# Altium footprint library 5442248.PcbLib: 1 footprints
Each footprint in its own frame and in the unit in brackets; x right, y up, seen from the top. Pads: shape width x height; smd on the part's side, far side on the other; paste and mask are expansions set on the pad; w line width, h text height; cw(c..) or ccw(c..) is an arc to the next point about the centre after c.
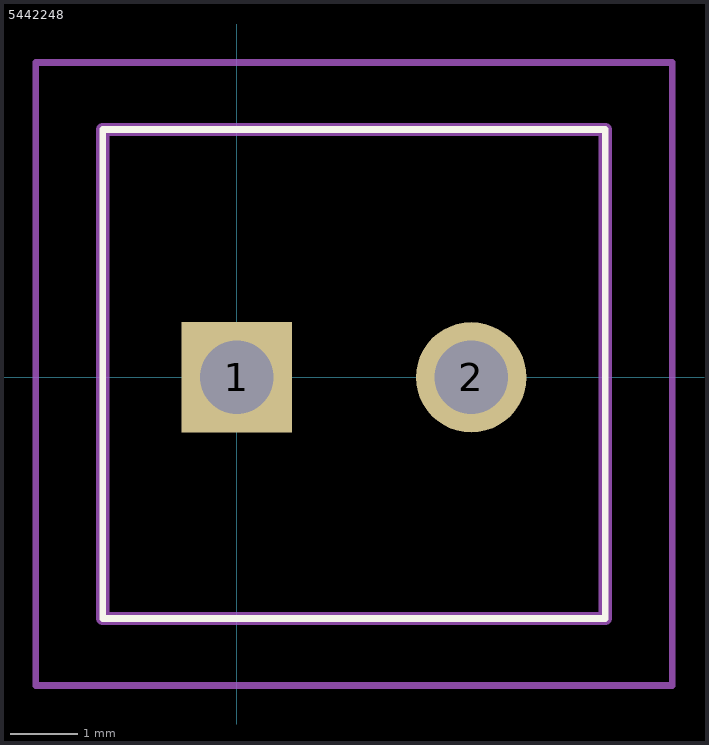
[diagram p0: the footprint, top view; thin cyan lines are the x and y axes]

## 5442248 [mm]
pads (2):
  rect 1.65x1.65 hole 1.1: 1(0,0)
  round 1.65 hole 1.1: 2(3.5,0)
Top Overlay:
  lines w0.1: -2,-3.6 5.5,-3.6 5.5,3.7 -2,3.7 -2,-3.6
Mechanical 15:
  lines w0.2: -2,-3.6 5.5,-3.6 5.5,3.7 -2,3.7 -2,-3.6
Mechanical 20:
  lines w0.1: -3,-4.6 6.5,-4.6 6.5,4.7 -3,4.7 -3,-4.6